# Altium schematic symbol library RESISTOR_SR0603FR-7T2K2L.SchLib: 1 symbol
Pins are listed as number, name and electrical type; pins without a type are passive.

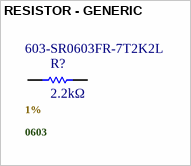
[diagram p0: symbol RESISTOR - GENERIC]

## RESISTOR - GENERIC
designator R?, comment 2.2kΩ  .Case/Package: 0603  .Tolerance: 1%  Supplier Part Number 1: 603-SR0603FR-7T2K2L
Surge Chip Resistor Automotive Grade Thick Film 0603 2.2kOhm 1% Paper T/R; Manufacturer: Yageo Group; Manufacturer Part Number: SR0603FR-7T2K2L; Power Dissipation: 250mW; Temperature Coefficient: 100ppm/°C; Voltage Rating: 75V; Working Voltage: 150V; Supplier 1: Mouser; RoHS: Compliant; Category: Chip SMD Resistors; Stock 1: 5934; Pricing 1: 1=0,55, 10=0,321, 50=0,296, 100=0,265, 1000=0,176, 10000=0,158 (USD); Case/Package: 0603; China RoHS: Non-Compliant; Composition: Thick Film; Height: 450µm; Lifecycle Status: Production; Max Operating Temperature: 155°C; Min Operating Temperature: -55°C; Mount: Surface Mount; Number of Terminals: 2; Packaging: Tape & Reel; Power Rating: 250mW; REACH SVHC: Yes; Resistance: 2.2kΩ; Tolerance: 1%; Width: 800µm; ComponentLink1URL: https://datasheet.octopart.com:443/SR0603FR-7T2K2L-Yageo-datasheet-176402240.pdf?src-supplier=element14+APAC; ComponentLink1Description: https://datasheet.octopart.com:443/SR0603FR-7T2K2L-Yageo-datasheet-176402240.pdf?src-supplier=element14+APAC; ComponentLink2URL: https://datasheet.octopart.com:443/SR0603FR-7T2K2L-Yageo-datasheet-119732217.pdf?src-supplier=Upverter; ComponentLink2Description: https://datasheet.octopart.com:443/SR0603FR-7T2K2L-Yageo-datasheet-119732217.pdf?src-supplier=Upverter; ComponentLink3URL: https://datasheet.octopart.com:443/SR0603FR-7T2K2L-Yageo-datasheet-155675517.pdf?src-supplier=ODG+(Origin+Data+Global); ComponentLink3Description: https://datasheet.octopart.com:443/SR0603FR-7T2K2L-Yageo-datasheet-155675517.pdf?src-supplier=ODG+(Origin+Data+Global); ComponentLink4URL: https://datasheet.octopart.com:443/SR0603FR-7T2K2L-Yageo-datasheet-137701088.pdf?src-supplier=Future+Electronics; ComponentLink4Description: https://datasheet.octopart.com:443/SR0603FR-7T2K2L-Yageo-datasheet-137701088.pdf?src-supplier=Future+Electronics; ComponentLink5URL: https://datasheet.octopart.com/SR0603FR-7T2K2L-Yageo-datasheet-11047080.pdf; ComponentLink5Description: https://datasheet.octopart.com/SR0603FR-7T2K2L-Yageo-datasheet-11047080.pdf; ComponentLink6URL: http://sigma.octopart.com:80/rohs_statement/Yageo-company-2.pdf?src-supplier=Compliance+Statements; ComponentLink6Description: http://sigma.octopart.com:80/rohs_statement/Yageo-company-2.pdf?src-supplier=Compliance+Statements; ComponentLink7URL: http://sigma.octopart.com:80/conflict_mineral_statement/Yageo-company-3.pdf?src-supplier=Compliance+Statements; ComponentLink7Description: http://sigma.octopart.com:80/conflict_mineral_statement/Yageo-company-3.pdf?src-supplier=Compliance+Statements
footprint R0603 - YAGEO
pins: 1, 2